# Altium schematic symbol library RAC.SchLib: 3 symbols
Pins are listed as number, name and electrical type; pins without a type are passive.

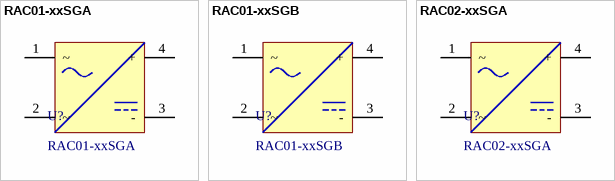
[diagram p0: symbols RAC01-xxSGA to RAC02-xxSGA]

## RAC01-xxSGA
designator U?
AC/DC Converter - 1 Watt, Single Output
footprint RAC01-xxSGA
pins: 1 ~ (power), 2 ~ (power), 3 - (power), 4 + (power)

## RAC01-xxSGB
designator U?
AC/DC Converter - 1 Watt, Single Output
footprint RAC01-xxSGB
pins: 1 ~ (power), 2 ~ (power), 3 - (power), 4 + (power)

## RAC02-xxSGA
designator U?
AC/DC Converter - 2 Watt, Single Output
footprint RAC02-xxSGA
pins: 1 ~ (power), 2 ~ (power), 3 - (power), 4 + (power)